# Altium footprint library CN_USB_B.PcbLib: 1 footprints
Each footprint in its own frame and in the unit in brackets; x right, y up, seen from the top. Pads: shape width x height; smd on the part's side, far side on the other; paste and mask are expansions set on the pad; w line width, h text height; cw(c..) or ccw(c..) is an arc to the next point about the centre after c.
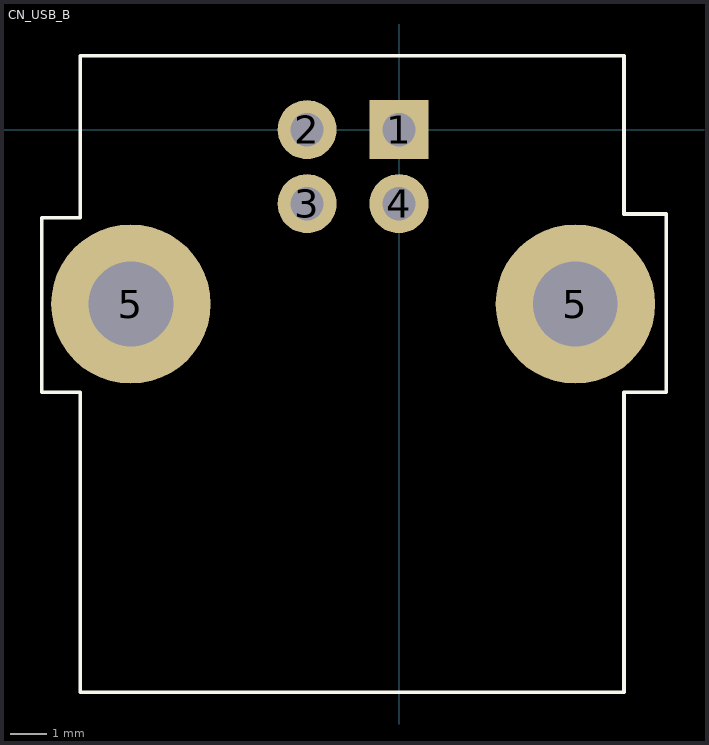
[diagram p0: the footprint, top view; thin cyan lines are the x and y axes]

## CN_USB_B [mil] "CN_USB_B"
pads (6):
  rect 63x63 hole 35.43: 1(0,0)
  round 63 hole 35.43: 2(-98,0) 3(-98,-79) 4(0,-79)
  round 170 hole 90.55: 5(-286,-186) 5(188,-186)
Top Overlay:
  lines w4: -381,-280 -340,-280 -340,-600 240,-600 240,-280 285,-280 285,-90 240,-90 240,78.74 -340,78.74 -340,-94 -381,-94 -381,-280
3D body: height 452.76, standoff -154.56, extent -332.43,-590.02 234.05,28.09